# Altium footprint library iMX53_BB_PCB_V1I1.PcbLib: 72 footprints (part 3 of 5)
Each footprint in its own frame and in the unit in brackets; x right, y up, seen from the top. Pads: shape width x height; smd on the part's side, far side on the other; paste and mask are expansions set on the pad; w line width, h text height; cw(c..) or ccw(c..) is an arc to the next point about the centre after c.
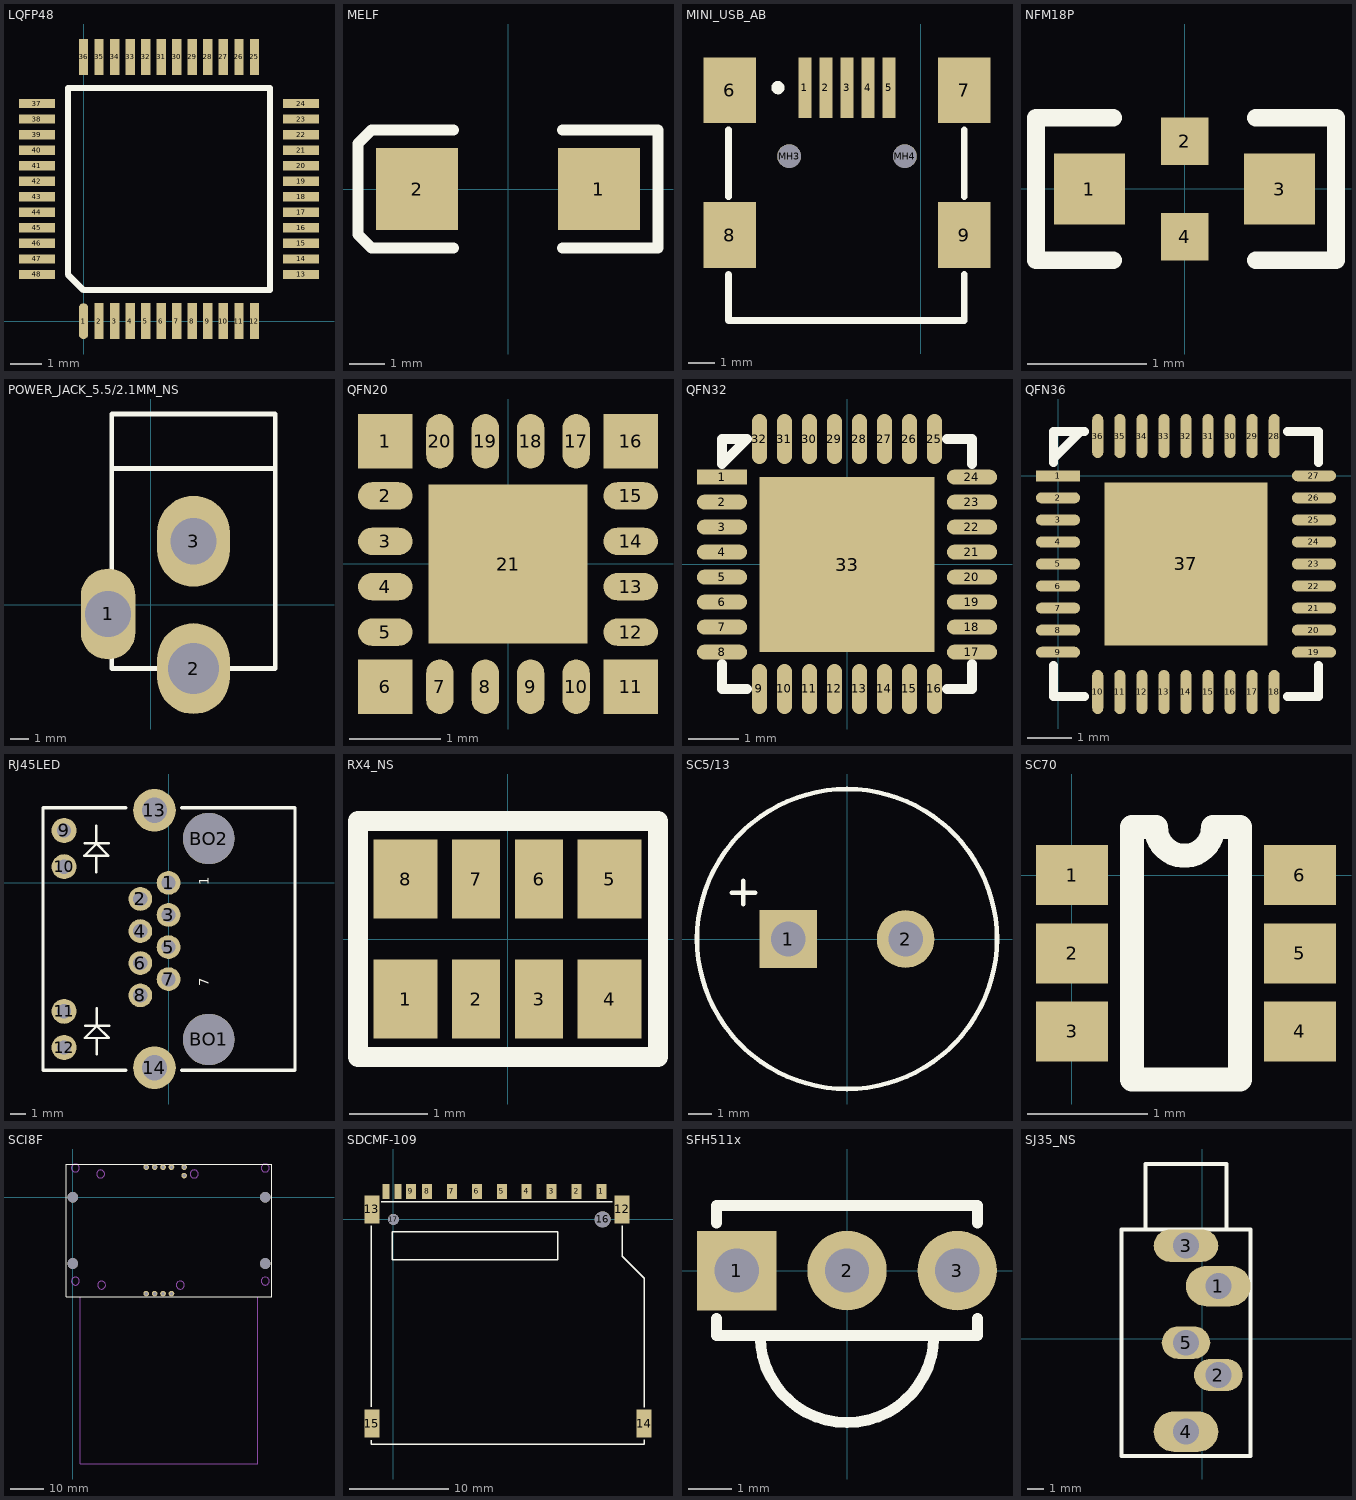
[diagram p2: the footprints below, top view; thin cyan lines are the x and y axes]

## LQFP48 [mm]
pads (48):
  oval 0.3x1.15 smd: 1(0,0)
  rect 0.3x1.15 smd: 2(0.5,0) 3(1,0) 4(1.5,0) 5(2,0) 6(2.5,0) 7(3,0) 8(3.5,0) 9(4,0) 10(4.5,0) 11(5,0) 12(5.5,0) 25(5.5,8.5) 26(5,8.5) 27(4.5,8.5) 28(4,8.5) 29(3.5,8.5) 30(3,8.5) 31(2.5,8.5) 32(2,8.5) 33(1.5,8.5) 34(1,8.5) 35(0.5,8.5) 36(0,8.5)
  rect 1.15x0.3 smd: 13(7,1.5) 14(7,2) 15(7,2.5) 16(7,3) 17(7,3.5) 18(7,4) 19(7,4.5) 20(7,5) 21(7,5.5) 22(7,6) 23(7,6.5) 24(7,7) 37(-1.5,7) 38(-1.5,6.5) 39(-1.5,6) 40(-1.5,5.5) 41(-1.5,5) 42(-1.5,4.5) 43(-1.5,4) 44(-1.5,3.5) 45(-1.5,3) 46(-1.5,2.5) 47(-1.5,2) 48(-1.5,1.5)
Top Overlay:
  lines w0.2: -0.5,1.5 0,1 6,1 6,7.5 -0.5,7.5 -0.5,1.5

## MELF [mil]
pads (2):
  rect 90x90 smd: 1(100,0) 2(-100,0)
Top Overlay:
  lines w12: -60,-65 -150,-65 -165,-50 -165,50 -150,65 -60,65 ; 60,-65 165,-65 165,65 60,65

## MINI_USB_AB [mm]
pads (11):
  rect 0.5x2.3 smd: 1(-4.396,18.493) 2(-3.596,18.493) 3(-2.796,18.493) 4(-1.996,18.493) 5(-1.196,18.493)
  rect 2x2.5 smd: 6(-7.246,18.393) 7(1.654,18.393) 8(-7.246,12.893) 9(1.654,12.893)
  round 0.9 hole 0.9 unplated: MH3(-4.996,15.893) MH4(-0.596,15.893)
Top Overlay:
  circle w0.25: c-5.421,18.493 r0.125
  lines w0.254: -7.296,11.393 -7.296,9.643 1.654,9.643 1.654,11.393 ; -7.296,14.343 -7.296,16.893 ; 1.654,14.343 1.654,16.893

## NFM18P [mm]
pads (4):
  rect 0.6x0.6 smd: 1(-0.8,0) 3(0.8,0)
  rect 0.4x0.4 smd: 2(0,0.4) 4(0,-0.4)
Top Overlay:
  lines w0.15: -0.6,-0.6 -1.25,-0.6 -1.25,0.6 -0.6,0.6 ; 0.6,-0.6 1.275,-0.6 1.275,0.6 0.6,0.6

## POWER_JACK_5.5/2.1MM_NS [mm]
pads (3):
  oval 3x5 hole 2.54: 1(-2.35,-0.5)
  oval 4x5 hole 2.794: 2(2.35,-3.5)
  oval 4x5 hole 2.54: 3(2.35,3.5)
Top Overlay:
  lines w0.254: -2.15,7.5 6.85,7.5 ; -2.15,-3.5 -2.15,10.5 6.85,10.5 6.85,-3.5 -2.15,-3.5

## QFN20 [mm]
pads (21):
  rect 0.6x0.6 smd: 1(-1.35,1.35) 6(-1.35,-1.35) 11(1.35,-1.35) 16(1.35,1.35)
  oval 0.6x0.3 smd: 2(-1.35,0.75) 3(-1.35,0.25) 4(-1.35,-0.25) 5(-1.35,-0.75) 12(1.35,-0.75) 13(1.35,-0.25) 14(1.35,0.25) 15(1.35,0.75)
  oval 0.3x0.6 smd: 7(-0.75,-1.35) 8(-0.25,-1.35) 9(0.25,-1.35) 10(0.75,-1.35) 17(0.75,1.35) 18(0.25,1.35) 19(-0.25,1.35) 20(-0.75,1.35)
  rect 1.75x1.75 smd: 21(0,0)

## QFN32 [mm]
pads (33):
  rect 1x0.3 smd: 1(-2.5,1.738)
  oval 1x0.3 smd: 2(-2.5,1.238) 3(-2.5,0.738) 4(-2.5,0.238) 5(-2.5,-0.262) 6(-2.5,-0.762) 7(-2.5,-1.262) 8(-2.5,-1.763) 17(2.5,-1.763) 18(2.5,-1.262) 19(2.5,-0.762) 20(2.5,-0.262) 21(2.5,0.238) 22(2.5,0.738) 23(2.5,1.238) 24(2.5,1.738)
  oval 0.3x1 smd: 9(-1.75,-2.5) 10(-1.25,-2.5) 11(-0.75,-2.5) 12(-0.25,-2.5) 13(0.25,-2.5) 14(0.75,-2.5) 15(1.25,-2.5) 16(1.75,-2.5) 25(1.75,2.5) 26(1.25,2.5) 27(0.75,2.5) 28(0.25,2.5) 29(-0.25,2.5) 30(-0.75,2.5) 31(-1.25,2.5) 32(-1.75,2.5)
  rect 3.5x3.5 smd: 33(0,-0.012)
Top Overlay:
  lines w0.2: -2.5,-2 -2.5,-2.5 -2,-2.5 ; 2,-2.5 2.5,-2.5 2.5,-2 ; 2,2.5 2.5,2.5 2.5,2 ; -2.5,2 -2.5,2.5 -2,2.5 -2.5,2

## QFN36 [mm]
pads (37):
  rect 1x0.25 smd: 1(0,0)
  oval 1x0.25 smd: 2(0,-0.5) 3(0,-1) 4(0,-1.5) 5(0,-2) 6(0,-2.5) 7(0,-3) 8(0,-3.5) 9(0,-4) 19(5.8,-4) 20(5.8,-3.5) 21(5.8,-3) 22(5.8,-2.5) 23(5.8,-2) 24(5.8,-1.5) 25(5.8,-1) 26(5.8,-0.5) 27(5.8,0)
  oval 0.25x1 smd: 10(0.9,-4.9) 11(1.4,-4.9) 12(1.9,-4.9) 13(2.4,-4.9) 14(2.9,-4.9) 15(3.4,-4.9) 16(3.9,-4.9) 17(4.4,-4.9) 18(4.9,-4.9) 28(4.9,0.9) 29(4.4,0.9) 30(3.9,0.9) 31(3.4,0.9) 32(2.9,0.9) 33(2.4,0.9) 34(1.9,0.9) 35(1.4,0.9) 36(0.9,0.9)
  rect 3.7x3.7 smd: 37(2.9,-2)
Top Overlay:
  lines w0.2: -0.1,-4.3 -0.1,-5 0.6,-5 ; -0.1,0.3 -0.1,1 0.6,1 ; -0.1,0.4 0.5,1 ; 5.2,-5 5.9,-5 5.9,-4.3 ; 5.2,1 5.9,1 5.9,0.3

## RJ45LED [mm]
pads (16):
  round 1.5 hole 0.9: 1(0,0) 2(-1.78,-1.02) 3(0,-2.03) 4(-1.78,-3.05) 5(0,-4.06) 6(-1.78,-5.07) 7(0,-6.09) 8(-1.78,-7.11)
  round 1.575 hole 0.9: 9(-6.6,3.31) 10(-6.6,1.02) 11(-6.6,-8.12) 12(-6.6,-10.41)
  round 2.7 hole 1.6: 13(-0.89,4.58) 14(-0.89,-11.68)
  round 3.25 hole 3.25 unplated: BO1(2.54,-9.9) BO2(2.54,2.8)
Top Overlay:
  lines w0.15: -5.29,2.49 -3.77,2.49 ; -5.27,-9.03 -3.75,-9.03 ; -4.56,0.67 -4.56,1.71 ; -4.56,3.6 -4.56,2.48 -3.79,1.71 -5.32,1.71 -4.54,2.49 ; -4.54,-10.85 -4.54,-9.81 ; -4.54,-7.92 -4.54,-9.04 -3.77,-9.81 -5.3,-9.81 -4.52,-9.03
  lines w0.2: -2.69,-11.85 -7.94,-11.85 -7.94,4.75 -2.69,4.75 ; 0.83,-11.85 8,-11.85 8,4.75 0.83,4.75
  text "7" at 2.55,-6.55 h0.6
  text "1" at 2.55,-0.15 h0.6

## RX4_NS [mil]
pads (8):
  rect 32x39.37 smd: 1(-51,-30) 4(51,-30) 5(51,30) 8(-51,30)
  rect 24x39.37 smd: 2(-15.75,-30) 3(15.75,-30) 6(15.75,30) 7(-15.75,30)
Top Overlay:
  lines w10: -74.8,-59.05 -74.8,59.06 75.2,59.06 75.2,-59.05 -74.8,-59.05

## SC5/13 [mm]
pads (2):
  rect 2.5x2.5 hole 1.5: 1(-2.54,0)
  round 2.5 hole 1.5: 2(2.54,0)
Top Overlay:
  circle w0.2: c0,0 r6.5
  lines w0.2: -5,2 -3.984,2 ; -4.5,1.5 -4.5,2.516

## SC70 [mm]
pads (6):
  rect 0.6x0.5 smd: 1(0,0) 2(0,-0.65) 3(0,-1.3) 4(1.9,-1.3) 5(1.9,-0.65) 6(1.9,0)
Top Overlay:
  lines w0.2: 0.5,-1.7 0.5,0.4 0.7,0.4 ccw(c0.938,0.4) 1.175,0.4 1.4,0.4 1.4,-1.7 0.5,-1.7

## SCI8F [mm]
pads (14):
  round 1.7 hole 1: 1(22.12,9.05) 2(24.66,9.05) 3(27.2,9.05) 4(29.74,9.05) 5(22.12,-29.05) 6(24.66,-29.05) 7(27.2,-29.05) 8(29.74,-29.05) 9(33.55,9.05) 10(33.55,6.51)
  round 3.2 hole 3.2 unplated: MH1(0,0) MH2(58,0) MH3(0,-20) MH4(58,-20)
Top Overlay:
  lines w0.2: -2,-30 -2,10 60,10 60,-30 -2,-30
Mechanical 1:
  circle w0.2: c8.7,-26.5 r1.2
  circle w0.2: c32.4,-26.5 r1.2
  circle w0.2: c58,-25.3 r1.2
  circle w0.2: c0.8,-25.3 r1.2
  circle w0.2: c36.6,7 r1.2
  circle w0.2: c58,8.8 r1.2
  circle w0.2: c8.4,7 r1.2
  circle w0.2: c0.8,8.8 r1.2
  lines w0.2: 2.19,-30.2 2.19,-80.4 55.69,-80.4 55.69,-30.2

## SDCMF-109 [mm]
pads (17):
  rect 1x1.5 smd: 1(20.875,2.8) 2(18.375,2.8) 3(15.875,2.8) 4(13.375,2.8) 5(10.875,2.8) 6(8.375,2.8) 7(5.875,2.8) 8(3.375,2.8) 9(1.75,2.8)
  rect 0.7x1.5 smd: 10(0.45,2.8) 11(-0.75,2.8)
  rect 1.5x2.8 smd: 12(22.95,1) 13(-2.15,1) 14(25.15,-20.5) 15(-2.15,-20.5)
  round 1.6 hole 1.6 unplated: 16(21,0)
  round 1.1 hole 1.1 unplated: 17(0,0)
Top Overlay:
  lines w0.15: -2.2,-22.15 -2.2,-22.55 25.15,-22.55 25.15,-22.1 ; -2.2,-18.8 -2.2,-0.65 ; -1.2,1.75 21.95,1.75 ; 22.95,-0.65 22.95,-3.7 25.15,-5.9 25.15,-18.85 ; -0.1,-4.05 -0.1,-1.25 16.5,-1.25 16.5,-4.05 -0.1,-4.05

## SFH511x [mil]
pads (3):
  rect 72x72 hole 40: 1(-100,0)
  round 72 hole 40: 2(0,0) 3(100,0)
Top Overlay:
  lines w10: -118.11,-43.31 -118.11,-59.06 118.11,-59.06 118.11,-43.31 ; -118.11,43.31 -118.11,59.05 118.11,59.05 118.11,43.31 ; -78.74,-59.06 ccw(c0,-59.06) 78.74,-59.06

## SJ35_NS [mm]
pads (5):
  oval 4x2.5 hole 1.6: 1(1,3.25) 4(-1,-5.75)
  oval 3x2 hole 1.6: 2(1,-2.25) 5(-1,-0.25)
  oval 4x2 hole 1.6: 3(-1,5.75)
Top Overlay:
  lines w0.254: -3.5,6.75 -3.5,10.8 1.5,10.8 1.5,6.75 ; -5,-7.25 3,-7.25 3,6.75 -5,6.75 -5,-7.25